# Altium schematic symbol library status board parts.SchLib: 7 symbols
Pins are listed as number, name and electrical type; pins without a type are passive.

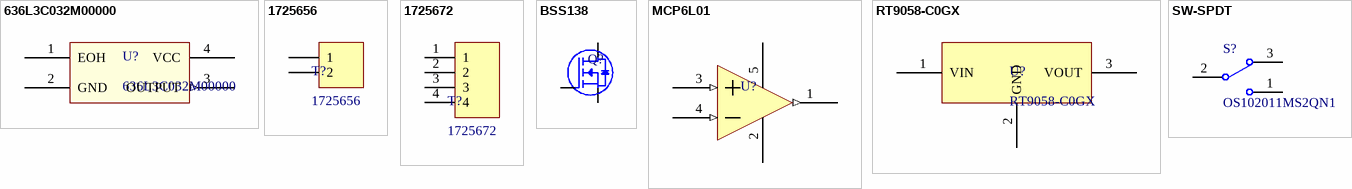
[diagram p0: symbols 636L3C032M00000 to SW-SPDT]

## 636L3C032M00000
designator U?
OSC XO 32.000MHZ HCMOS TTL SMD; Supplier 1: Digi-Key; Supplier Part Number 1: CTX698CT-ND
footprint 636L3C032M00000 (OSC XO 32.000MHZ HCMOS TTL SMD)
pins: 1 EOH, 2 GND (power), 3 OUTPUT (out), 4 VCC (power)

## 1725656
designator T?
CONN TERM BLOCK 2.54MM 2POS; Supplier 1: Digi-Key; Supplier Part Number 1: 277-1273-ND
footprint 277-1273-ND (CONN TERM BLOCK 2.54MM 2POS)
pins: 1, 2

## 1725672
designator T?
CONN TERM BLOCK 2.54MM 4POS; Supplier 1: Digi-Key; Supplier Part Number 1: 277-1275-ND
footprint 277-1275-ND (CONN TERM BLOCK 2.54MM 4POS)
pins: 1, 2, 3, 4

## BSS138
designator Q?  (value not drawn)
MOSFET N-CH 50V 220MA SOT-23; Supplier 1: Digi-Key; Supplier Part Number 1: BSS138CT-ND
footprint BSS138 (MOSFET N-CH 50V 220MA SOT-23)
pins: D, G, S

## MCP6L01
designator U?  (value not drawn)
Op Amp Rail-to-Rail 1Mhz; Supplier 1: Digi-Key; Supplier Part Number 1: MCP6L01T-E/OTCT-ND
footprint MCP6L01R (SOT23, 5-Leads, Body 2.90x2.70mm, Pitch 0.95mm, IPC Medium Density)
pins: 1 VOUT (out), 2 VSS (power), 3 VIN+ (in), 4 VIN- (in), 5 VDD (power)

## RT9058-C0GX
designator U?
IC REG LDO 12V 0.1A; Supplier 1: Digi-Key; Supplier Part Number 1: 1028-1307-1-ND
footprint RT9058-C0GX
pins: 1 VIN, 2 GND (power), 3 VOUT

## SW-SPDT
designator S?, comment OS102011MS2QN1
SWITCH SLIDE SPDT 100MA 12V
footprint OS102011MS2QN1 (SWITCH SLIDE SPDT 100MA 12V)
pins: 1, 2, 3